# Altium footprint library SOD.PcbLib: 4 footprints
Each footprint in its own frame and in the unit in brackets; x right, y up, seen from the top. Pads: shape width x height; smd on the part's side, far side on the other; paste and mask are expansions set on the pad; w line width, h text height; cw(c..) or ccw(c..) is an arc to the next point about the centre after c.
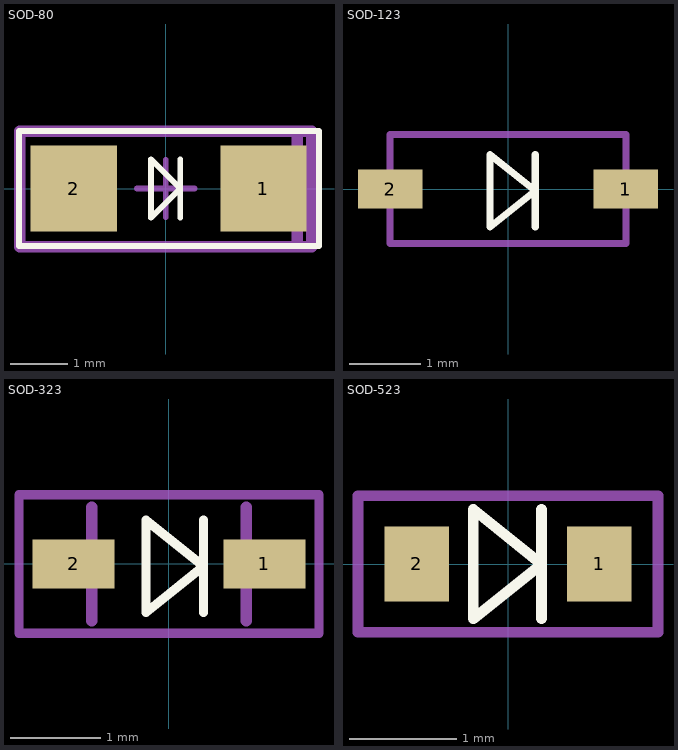
[diagram p0: the footprints below, top view; thin cyan lines are the x and y axes]

## SOD-80 [mm]
pads (2):
  rect 1.5x1.5 smd: 1(1.7,0) 2(-1.6,0)
Top Overlay:
  lines w0.1: 0.254,-0.508 0.254,0.508 ; -2.55,-1 2.667,-1 2.667,1 -2.55,1 -2.55,-1 ; -0.254,-0.508 -0.254,0.508 0.254,0 -0.254,-0.508
TopAssy:
  lines w0.2: 2.286,-1.016 2.286,0.889 ; -2.54,-1.016 -2.54,1 2.54,1 2.54,-1.016 -2.54,-1.016
  text ".Designator" at -2.286,-0.381 h1.52
Mechanical 15:
  lines w0.1: -0.5,0 0.5,0 ; 0,-0.5 0,0.5
3D body "1n4148.step": height 1.6, standoff 0, extent -1.723,-0.838 1.977,0.762

## SOD-123 [mm]
pads (2):
  rect 0.9x0.54 smd: 1(1.65,0) 2(-1.65,0)
Top Overlay:
  lines w0.1: 0.381,-0.533 0.381,0.483 ; -0.254,-0.533 0.381,-0.025 -0.254,0.483 -0.254,-0.533
TopAssy:
  lines w0.1: -1.651,-0.762 1.651,-0.762 1.651,0.762 -1.651,0.762 -1.651,-0.762
  text ".Designator" at -3.556,-0.381 h1.52
3D body "SOD-123.step": height 1.35, standoff 0, extent -1.85,-0.775 1.85,0.775

## SOD-323 [mm]
pads (2):
  rect 0.9x0.54 smd: 1(1.05,0) 2(-1.05,0)
Top Overlay:
  lines w0.1: 0.381,-0.533 0.381,0.483 ; -0.254,-0.533 0.381,-0.025 -0.254,0.483 -0.254,-0.533
TopAssy:
  lines w0.1: -1.651,-0.762 1.651,-0.762 1.651,0.762 -1.651,0.762 -1.651,-0.762
  text ".Designator" at -3.556,-0.381 h1.52
Mechanical 13:
  lines w0.127: -0.85,-0.625 -0.85,0.625 ; 0.85,-0.625 0.85,0.625
3D body "step_temp.STEP": height 1.17, standoff 0, extent -1.25,-0.64 1.25,0.64

## SOD-523 [mm]
pads (2):
  rect 0.6x0.7 smd: 1(0.85,0) 2(-0.85,0)
Top Overlay:
  lines w0.1: 0.312,-0.508 0.312,0.508 ; -0.323,-0.508 0.312,0 -0.323,0.508 -0.323,-0.508
TopAssy:
  lines w0.1: -1.397,-0.635 1.397,-0.635 1.397,0.635 -1.397,0.635 -1.397,-0.635
  text ".Designator" at -3.531,-0.406 h1.52
3D body "SOD523F.step": height 0.7, standoff 0, extent -0.85,-0.45 0.85,0.45